# Altium schematic symbol library TPS7B92050DBVR.SchLib: 2 symbols
Pins are listed as number, name and electrical type; pins without a type are passive.

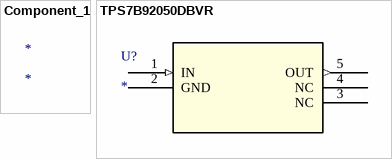
[diagram p0: symbols Component_1 to TPS7B92050DBVR]

## Component_1
designator *

## TPS7B92050DBVR
designator U?
No Description Available; Mfr_Name: Texas Instruments; RefDes: RefDes; Type: Type
footprint SOT-23-5-DBV_TEX
pins: 1 IN (in), 2 GND (power), 3 NC, 4 NC, 5 OUT (out)